# Altium footprint library keypad_4x4.PcbLib: 1 footprints
Each footprint in its own frame and in the unit in brackets; x right, y up, seen from the top. Pads: shape width x height; smd on the part's side, far side on the other; paste and mask are expansions set on the pad; w line width, h text height; cw(c..) or ccw(c..) is an arc to the next point about the centre after c.
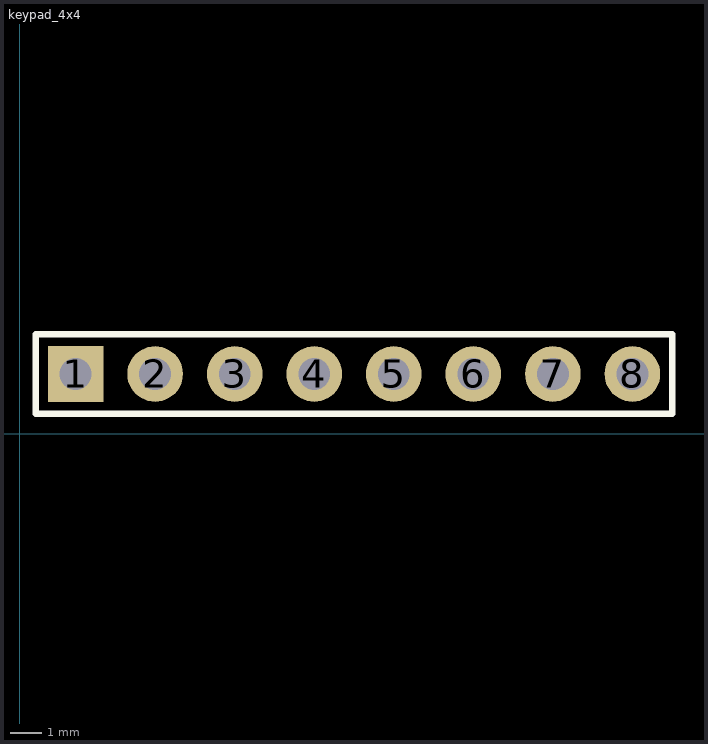
[diagram p0: the footprint, top view; thin cyan lines are the x and y axes]

## keypad_4x4 [mil]
pads (8):
  rect 70x70 hole 40: 1(70,75)
  round 70 hole 40: 2(170,75) 3(270,75) 4(370,75) 5(470,75) 6(570,75) 7(670,75) 8(770,75)
Top Overlay:
  lines w7.87: 20,25 820,25 820,125 20,125 20,25
3D body "2.54X2_pinheader_male.SLDPRT": height 326.77, standoff -224.41, extent 620.01,25.01 820.01,125.01
3D body "2.54X2_pinheader_male.SLDPRT": height 326.77, standoff -224.41, extent 420.01,25.01 620.01,125.01
3D body "keypad_4x4.STEP": height 598.8, standoff 250, extent -859.53,-25 1699.53,2691.54
3D body "2.54X2_pinheader_male.SLDPRT": height 326.77, standoff -224.41, extent 220,25.01 420,125.01
3D body "2.54X2_pinheader_male.SLDPRT": height 326.77, standoff -224.41, extent 20,25.01 220,125.01